# Altium schematic symbol library CRCW06034K70FKEAC.SchLib: 1 symbol
Pins are listed as number, name and electrical type; pins without a type are passive.

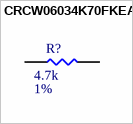
[diagram p0: symbol CRCW06034K70FKEAC]

## CRCW06034K70FKEAC
designator R?  Tolerance: 1%  Resistance: 4.7k  (hidden comment: CRCW06034K70FKEAC)
Thick Film Resistors - SMD Thick Film Resistors - SMD 1/10Watt 4.7Kohms 1% Commercial Use; MFR: Vishay; Qualifications: AEC-Q200; Power Rating: 1/10W; PN: CRCW06034K70FKEAC; ComponentLink1Description: Datasheet; ComponentLink1URL: https://www.mouser.ca/datasheet/2/427/crcwce3-1762584.pdf; Footprint: RES0603; Package: 0603; Supplier 1: Digi-Key; Supplier Part Number 1: 541-4.70KHCT-ND
footprint RES0603 (Generic 0603)
pins: 1, 2